# EAGLE library part BLUETOOTH_MODULE (library microbuilder)
BLUETOOTH MODULE
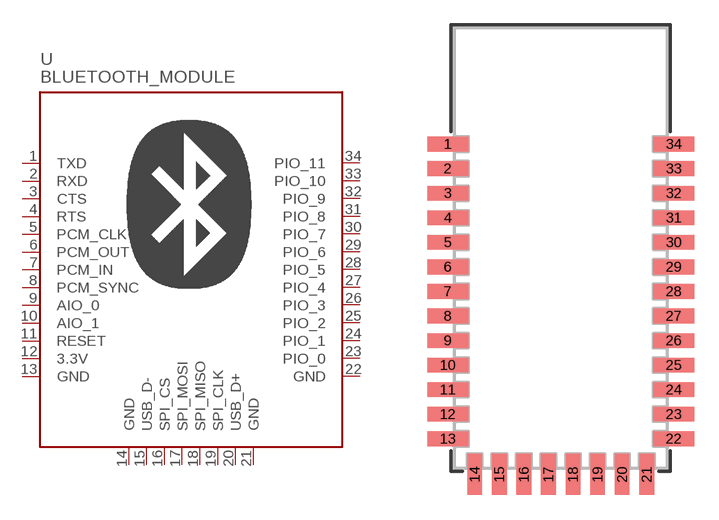
[diagram p160: symbol with the pads of BLUETOOTH_MODULE; footprint BLUETOOTH_MODULE]

Designator prefix U

## BLUETOOTH_MODULE  [BLUETOOTH_MODULE]
1  TXD
2  RXD
3  CTS
4  RTS
5  PCM_CLK
6  PCM_OUT
7  PCM_IN
8  PCM_SYNC
9  AIO_0
10  AIO_1
11  RESET
12  3.3V  pwr
13  GND  pwr
14  GND  pwr
15  USB_D-
16  SPI_CS
17  SPI_MOSI
18  SPI_MISO
19  SPI_CLK
20  USB_D+
21  GND  pwr
22  GND  pwr
23  PIO_0
24  PIO_1
25  PIO_2
26  PIO_3
27  PIO_4
28  PIO_5
29  PIO_6
30  PIO_7
31  PIO_8
32  PIO_9
33  PIO_10
34  PIO_11

## Footprint BLUETOOTH_MODULE (pad centres in mm)
smd 2.5 x 0.9: 1 -6.9,6.35; 2 -6.9,4.85; 3 -6.9,3.35; 4 -6.9,1.85; 5 -6.9,0.35; 6 -6.9,-1.15; 7 -6.9,-2.65; 8 -6.9,-4.15; 9 -6.9,-5.65; 10 -6.9,-7.15; 11 -6.9,-8.65; 12 -6.9,-10.15; 13 -6.9,-11.65; 22 6.9,-11.65; 23 6.9,-10.15; 24 6.9,-8.65; 25 6.9,-7.15; 26 6.9,-5.65; 27 6.9,-4.15; 28 6.9,-2.65; 29 6.9,-1.15; 30 6.9,0.35; 31 6.9,1.85; 32 6.9,3.35; 33 6.9,4.85; 34 6.9,6.35
smd 0.9 x 2.5: 14 -5.25,-13.83; 15 -3.75,-13.83; 16 -2.25,-13.83; 17 -0.75,-13.83; 18 0.75,-13.83; 19 2.25,-13.83; 20 3.75,-13.83; 21 5.25,-13.83